# EAGLE library part E5J88-00LJG2-L (library Aldebaran)
Ethernet RJ45 SIDE ENTRY THT
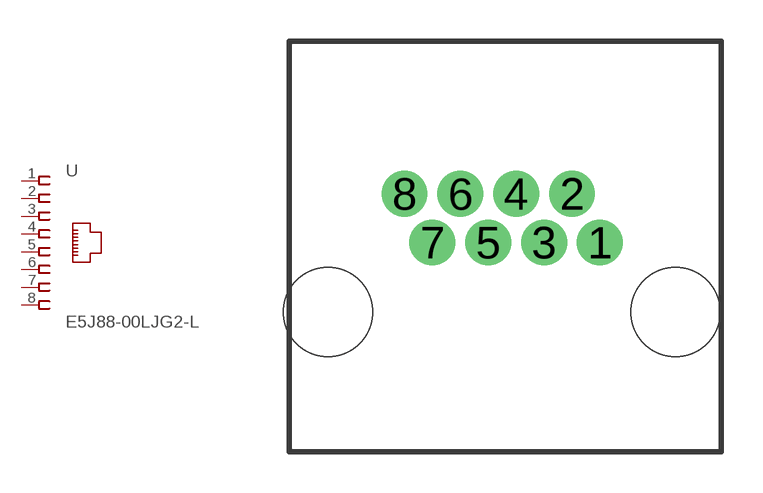
[diagram p7: symbol with the pads of E5J88-00LJG2-L; footprint E5J88-00LJG2-L]

Designator prefix -

## E5J88-00LJG2-L  [E5J88-00LJG2-L]
1  1  pas
2  2  pas
3  3  pas
4  4  pas
5  5  pas
6  6  pas
7  7  pas
8  8  pas

## Footprint E5J88-00LJG2-L (pad centres in mm)
Ethernet RJ45 SIDE ENTRY THT
drill 1 pad 1.676: 1 11.359,7.64; 2 10.339,9.42; 3 9.319,7.64; 4 8.299,9.42; 5 7.279,7.64; 6 6.259,9.42; 7 5.239,7.64; 8 4.219,9.42
hole 3.251 at 14.125,5.1
hole 3.251 at 1.425,5.1